# Altium schematic symbol library akm-analog.SchLib: 2 symbols
Pins are listed as number, name and electrical type; pins without a type are passive.

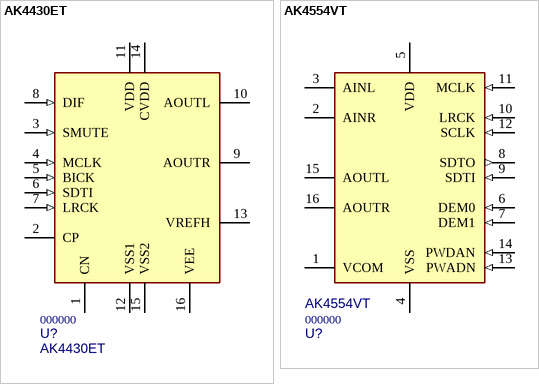
[diagram p0: symbols AK4430ET to AK4554VT]

## AK4430ET
designator U?, comment 000000  value AK4430ET
24bit Stereo Audio DAC; MF: AKM Semiconductor; PN: 000000; Package: 16-TSSOP; ExtraInfo: *; MF PN: AK4430ET; Digi-Key PN: 974-1017-1-ND; Price: 0.40600
footprint TSSOP-16-M (TSOP, 16-Leads, Body 5.1x4.5mm (max), Pitch 0.65mm, IPC Medium Density)
pins: 1 CN, 2 CP, 3 SMUTE (in), 4 MCLK (in), 5 BICK (in), 6 SDTI (in), 7 LRCK (in), 8 DIF (in), 9 AOUTR, 10 AOUTL, 11 VDD (power), 12 VSS1 (power), 13 VREFH (power), 14 CVDD (power), 15 VSS2 (power), 16 VEE (power)

## AK4554VT
designator U?, comment 000000  value AK4554VT
16bit Delta Sigma Audio CODEC; MF: AKM Semiconductor; PN: 000000; Package: 16-TSSOP; ExtraInfo: *; MF PN: AK4554VT
footprint TSSOP-16-M (TSOP, 16-Leads, Body 5.1x4.5mm (max), Pitch 0.65mm, IPC Medium Density)
pins: 1 VCOM, 2 AINR, 3 AINL, 4 VSS (power), 5 VDD (power), 6 DEM0 (in), 7 DEM1 (in), 8 SDTO (out), 9 SDTI (in), 10 LRCK (in), 11 MCLK (in), 12 SCLK (in), 13 PWADN (in), 14 PWDAN (in), 15 AOUTL, 16 AOUTR